# Altium footprint library LED_5mm_TH.PcbLib: 1 footprints
Each footprint in its own frame and in the unit in brackets; x right, y up, seen from the top. Pads: shape width x height; smd on the part's side, far side on the other; paste and mask are expansions set on the pad; w line width, h text height; cw(c..) or ccw(c..) is an arc to the next point about the centre after c.
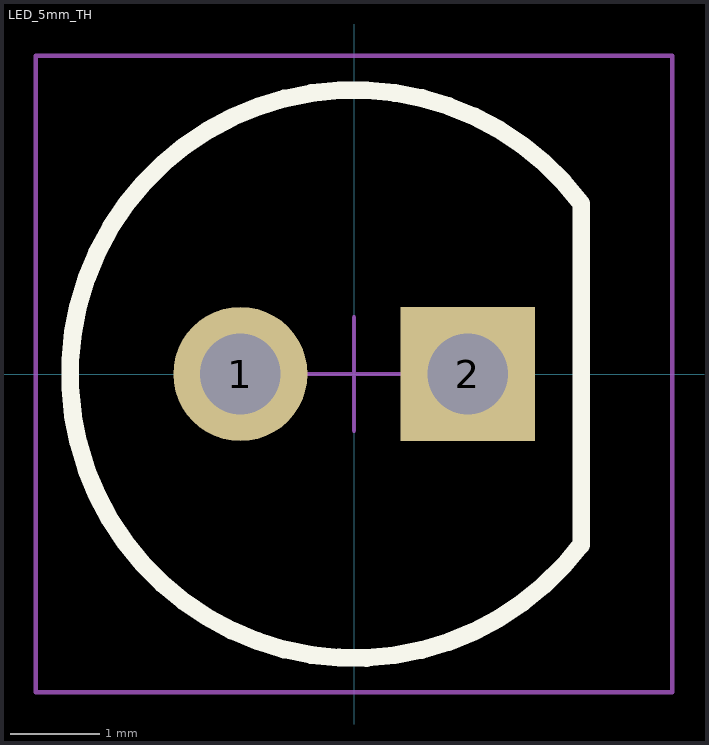
[diagram p0: the footprint, top view; thin cyan lines are the x and y axes]

## LED_5mm_TH [mm]
pads (2):
  round 1.5 hole 0.9: 1(-1.27,0)
  rect 1.5x1.5 hole 0.9: 2(1.27,0)
Top Overlay:
  lines w0.2: 2.538,-1.908 cw(c0,0) 2.54,1.905 2.54,-1.91
Mechanical 15:
  lines w0.05: -0.635,0 0.635,0 ; 0,-0.635 0,0.635 ; -3.556,-3.556 3.556,-3.556 3.556,3.556 -3.556,3.556 -3.556,-3.556
3D body: height 13.44, standoff -2, extent -3,-3 2.5,3